# EAGLE library part CAT24C256 (library mx4660-cape)
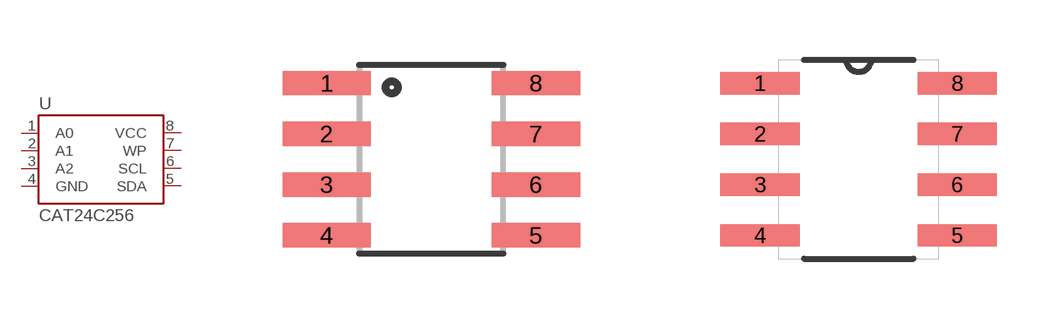
[diagram p4: symbol with the pads of SOIC-8-2; footprints SOIC-8-2, SOIC-8-1]

Designator prefix U

## CAT24C2562  [SOIC-8-2]
1  A0  in
2  A1  in
3  A2  in
4  GND  pwr
5  SDA
6  SCL
7  WP  in
8  VCC  pwr

## CAT24C2561  [SOIC-8-1]
Pads as for SOIC-8-2

## CAT24C2563  [SOIC-8-3]
Pads as for SOIC-8-2

## Footprint SOIC-8-2 (pad centres in mm)
Small Outline Package Fits JEDEC packages (narrow SOIC-8)
smd 2.21 x 0.61: 1 -2.616,1.905; 2 -2.616,0.635; 3 -2.616,-0.635; 4 -2.616,-1.905; 5 2.616,-1.905; 6 2.616,-0.635; 7 2.616,0.635; 8 2.616,1.905

## Footprint SOIC-8-1 (pad centres in mm)
smd 1.981 x 0.559: 1 -2.464,1.905; 2 -2.464,0.635; 3 -2.464,-0.635; 4 -2.464,-1.905; 5 2.464,-1.905; 6 2.464,-0.635; 7 2.464,0.635; 8 2.464,1.905

## Footprint SOIC-8-3 (pad centres in mm)
smd 1.981 x 0.559: 1 -2.362,1.905; 2 -2.362,0.635; 3 -2.362,-0.635; 4 -2.362,-1.905; 5 2.362,-1.905; 6 2.362,-0.635; 7 2.362,0.635; 8 2.362,1.905